# Altium footprint library Sangjian_Pcb.PcbLib: 434 footprints (part 11 of 28)
Each footprint in its own frame and in the unit in brackets; x right, y up, seen from the top. Pads: shape width x height; smd on the part's side, far side on the other; paste and mask are expansions set on the pad; w line width, h text height; cw(c..) or ccw(c..) is an arc to the next point about the centre after c.
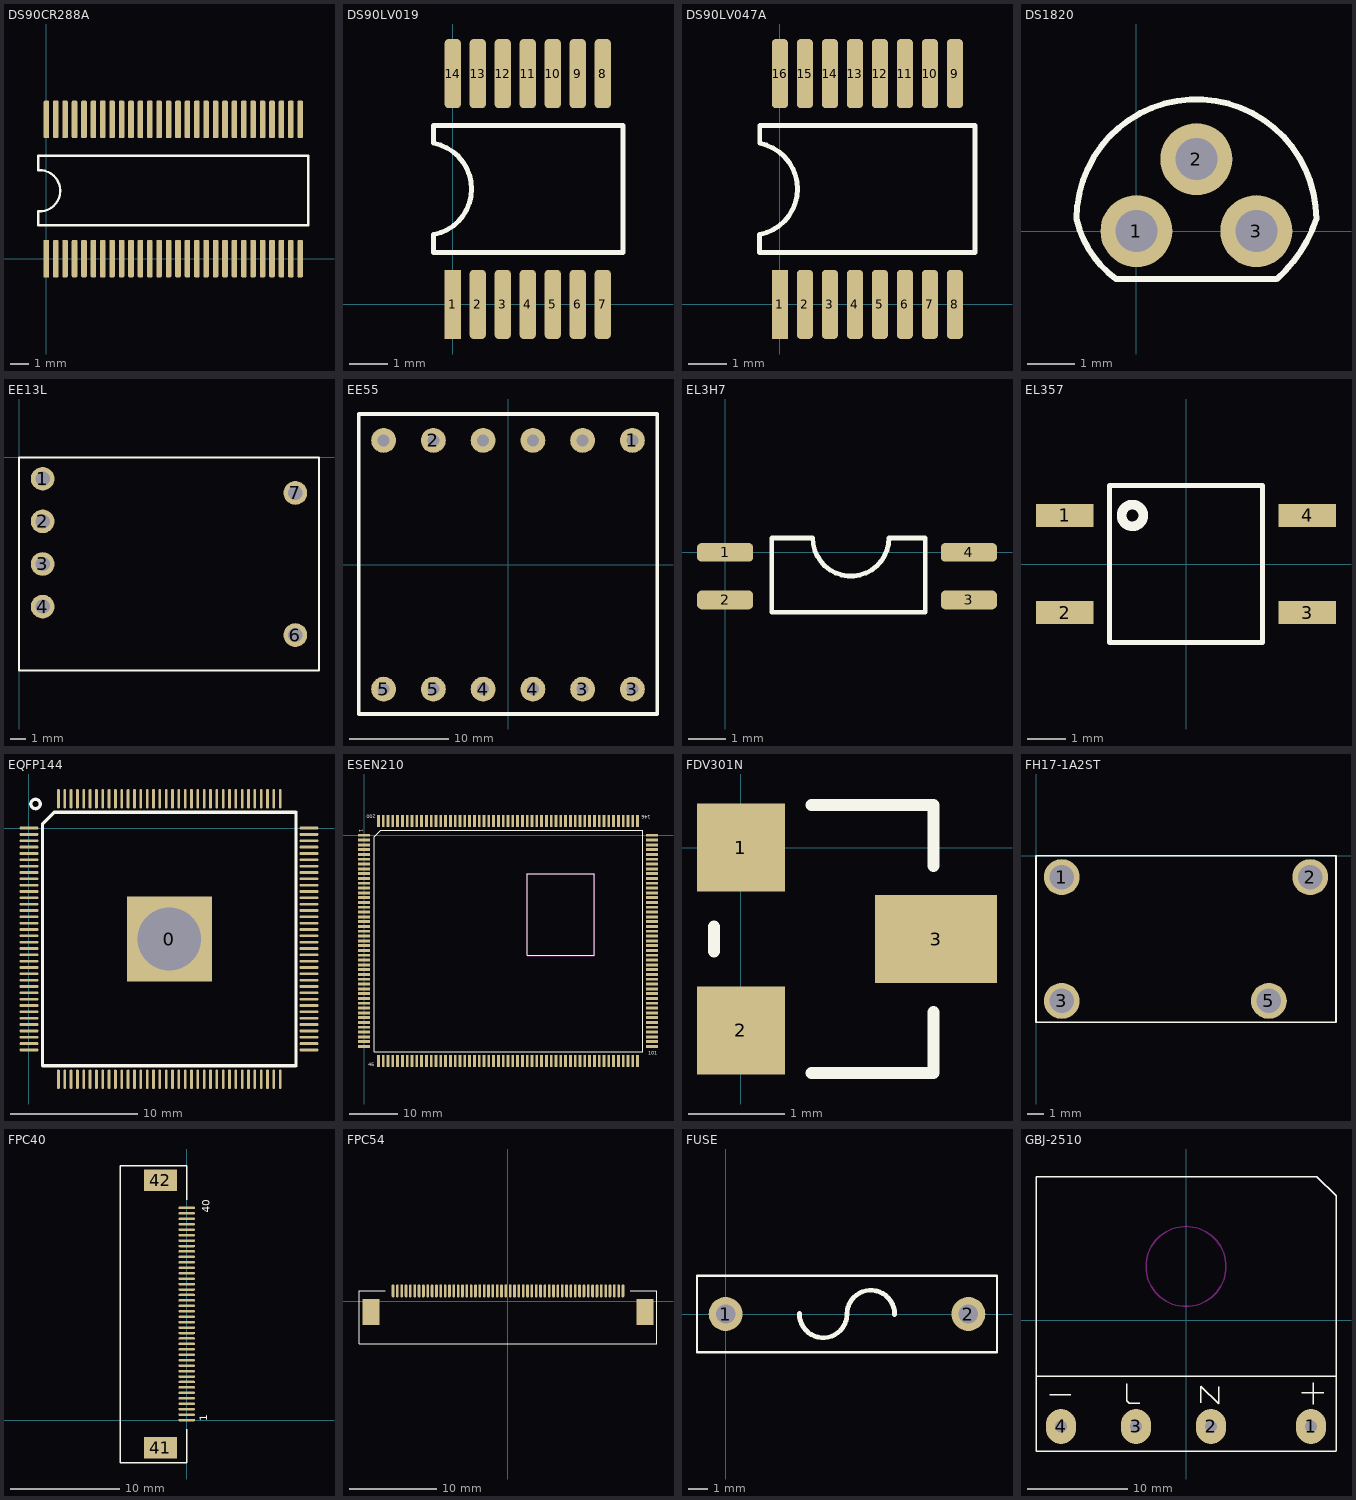
[diagram p10: the footprints below, top view; thin cyan lines are the x and y axes]

## DS90CR288A [mm]
pads (56):
  rect 0.3x2 smd: 1(0,0)
  rrect50% 0.3x2 smd: 2(0.5,0) 3(1,0) 4(1.5,0) 5(2,0) 6(2.5,0) 7(3,0) 8(3.5,0) 9(4,0) 10(4.5,0) 11(5,0) 12(5.5,0) 13(6,0) 14(6.5,0) 15(7,0) 16(7.5,0) 17(8,0) 18(8.5,0) 19(9,0) 20(9.5,0) 21(10,0) 22(10.5,0) 23(11,0) 24(11.5,0) 25(12,0) 26(12.5,0) 27(13,0) 28(13.5,0) 29(13.5,7.4) 30(13,7.4) 31(12.5,7.4) 32(12,7.4) 33(11.5,7.4) 34(11,7.4) 35(10.5,7.4) 36(10,7.4) 37(9.5,7.4) 38(9,7.4) 39(8.5,7.4) 40(8,7.4) 41(7.5,7.4) 42(7,7.4) 43(6.5,7.4) 44(6,7.4) 45(5.5,7.4) 46(5,7.4) 47(4.5,7.4) 48(4,7.4) 49(3.5,7.4) 50(3,7.4) 51(2.5,7.4) 52(2,7.4) 53(1.5,7.4) 54(1,7.4) 55(0.5,7.4) 56(0,7.4)
Top Overlay:
  lines w0.127: -0.425,1.778 13.925,1.778 13.925,5.461 -0.425,5.461 -0.425,4.699 cw(c-0.359,3.605) -0.424,2.511 -0.424,1.779

## DS90LV019 [mm]
pads (14):
  rect 0.42x1.8 smd: 1(0,0)
  rrect50% 0.42x1.8 smd: 2(0.65,0) 3(1.3,0) 4(1.95,0) 5(2.6,0) 6(3.25,0) 7(3.9,0) 8(3.9,6) 9(3.25,6) 10(2.6,6) 11(1.95,6) 12(1.3,6) 13(0.65,6) 14(0,6)
Top Overlay:
  lines w0.127: -0.5,1.816 -0.5,1.349 4.425,1.349 4.425,4.651 -0.5,4.651 -0.5,4.19 ; -0.492,1.816 ccw(c-0.718,3.003) -0.491,4.19

## DS90LV047A [mm]
pads (16):
  rect 0.42x1.8 smd: 1(0,0)
  rrect50% 0.42x1.8 smd: 2(0.65,0) 3(1.3,0) 4(1.95,0) 5(2.6,0) 6(3.25,0) 7(3.9,0) 8(4.55,0) 9(4.55,6) 10(3.9,6) 11(3.25,6) 12(2.6,6) 13(1.95,6) 14(1.3,6) 15(0.65,6) 16(0,6)
Top Overlay:
  lines w0.127: -0.526,1.349 -0.526,1.816 ccw(c-0.752,3.003) -0.525,4.19 -0.525,4.651 5.075,4.651 5.075,1.349 -0.525,1.349

## DS1820 [mil]
pads (3):
  round 60 hole 35: 1(0,0) 2(50,60) 3(100,0)
Top Overlay:
  lines w5: -50,10 cw(c50,10) 150,10 ; -50.02,10.07 ccw(c34.17,29.66) -17,-40 117,-40 ccw(c41.33,45.83) 150.03,10.09

## EE13L [mm]
pads (6):
  round 1.5 hole 0.9: 1(1.5,-1.35) 2(1.5,-4.05) 3(1.5,-6.75) 4(1.5,-9.45) 6(17.5,-11.25) 7(17.5,-2.25)
Top Overlay:
  lines w0.127: 0,-13.5 19,-13.5 19,0 0,0 0,-13.5

## EE55 [mm]
pads (12):
  round 2.5 hole 1.2: 1(12.5,12.5) 2(-7.5,12.5) 3(7.5,-12.5) 3(12.5,-12.5) 4(-2.5,-12.5) 4(2.5,-12.5) 5(-12.5,-12.5) 5(-7.5,-12.5) ""(-12.5,12.5) ""(-2.5,12.5) ""(2.5,12.5) ""(7.5,12.5)
Top Overlay:
  lines w0.4: -15,15 -15,-15 15,-15 ; -15,15.152 15,15.152 15,-14.87

## EL3H7 [mm]
pads (4):
  rrect50% 1.5x0.5 smd: 1(0,0) 2(0,-1.27) 3(6.5,-1.27) 4(6.5,0)
Top Overlay:
  lines w0.127: 1.245,-1.6 1.245,0.381 2.337,0.381 ccw(c3.353,0.381) 4.369,0.381 5.334,0.381 5.334,-1.6 1.245,-1.6

## EL357 [mm]
pads (4):
  rect 1.5x0.6 smd: 1(-3.175,1.27) 2(-3.175,-1.27) 3(3.175,-1.27) 4(3.175,1.27)
Top Overlay:
  circle w0.254: c-1.402,1.27 r0.284
  lines w0.127: -2,-2.05 -2,2.05 2,2.05 2,-2.05 -2,-2.05

## EQFP144 [mil]
pads (145):
  rect 263.78x263.78 hole 196.85: 0(435.94,-344.49)
  oct 60x8.5 smd: 1(0,0) 2(0,-19.68) 3(0,-39.37) 4(0,-59.06) 5(0,-78.74) 6(0,-98.43) 7(0,-118.11) 8(0,-137.8) 9(0,-157.48) 10(0,-177.17) 11(0,-196.85) 12(0,-216.54) 13(0,-236.22) 14(0,-255.91) 15(0,-275.59) 16(0,-295.28) 17(0,-314.96) 18(0,-334.65) 19(0,-354.33) 20(0,-374.02) 21(0,-393.7) 22(0,-413.39) 23(0,-433.07) 24(0,-452.76) 25(0,-472.44) 26(0,-492.13) 27(0,-511.81) 28(0,-531.5) 29(0,-551.18) 30(0,-570.87) 31(0,-590.55) 32(0,-610.24) 33(0,-629.92) 34(0,-649.61) 35(0,-669.29) 36(0,-688.98) 73(870,-688.98) 74(870,-669.29) 75(870,-649.61) 76(870,-629.92) 77(870,-610.24) 78(870,-590.55) 79(870,-570.87) 80(870,-551.18) 81(870,-531.5) 82(870,-511.81) 83(870,-492.13) 84(870,-472.44) 85(870,-452.76) 86(870,-433.07) 87(870,-413.39) 88(870,-393.7) 89(870,-374.02) 90(870,-354.33) 91(870,-334.65) 92(870,-314.96) 93(870,-295.28) 94(870,-275.59) 95(870,-255.91) 96(870,-236.22) 97(870,-216.54) 98(870,-196.85) 99(870,-177.17) 100(870,-157.48) 101(870,-137.8) 102(870,-118.11) 103(870,-98.43) 104(870,-78.74) 105(870,-59.06) 106(870,-39.37) 107(870,-19.68) 108(870,0)
  oct 8.5x60 smd: 37(91.46,-780.43) 38(111.14,-780.43) 39(130.83,-780.43) 40(150.51,-780.43) 41(170.2,-780.43) 42(189.88,-780.43) 43(209.57,-780.43) 44(229.25,-780.43) 45(248.94,-780.43) 46(268.62,-780.43) 47(288.31,-780.43) 48(307.99,-780.43) 49(327.68,-780.43) 50(347.36,-780.43) 51(367.05,-780.43) 52(386.73,-780.43) 53(406.42,-780.43) 54(426.1,-780.43) 55(445.79,-780.43) 56(465.47,-780.43) 57(485.16,-780.43) 58(504.84,-780.43) 59(524.53,-780.43) 60(544.21,-780.43) 61(563.9,-780.43) 62(583.58,-780.43) 63(603.27,-780.43) 64(622.95,-780.43) 65(642.64,-780.43) 66(662.32,-780.43) 67(682.01,-780.43) 68(701.69,-780.43) 69(721.38,-780.43) 70(741.06,-780.43) 71(760.75,-780.43) 72(780.43,-780.43) 109(780.43,91.46) 110(760.75,91.46) 111(741.06,91.46) 112(721.38,91.46) 113(701.69,91.46) 114(682.01,91.46) 115(662.32,91.46) 116(642.64,91.46) 117(622.95,91.46) 118(603.27,91.46) 119(583.58,91.46) 120(563.9,91.46) 121(544.21,91.46) 122(524.53,91.46) 123(504.84,91.46) 124(485.16,91.46) 125(465.47,91.46) 126(445.79,91.46) 127(426.1,91.46) 128(406.42,91.46) 129(386.73,91.46) 130(367.05,91.46) 131(347.36,91.46) 132(327.68,91.46) 133(307.99,91.46) 134(288.31,91.46) 135(268.62,91.46) 136(248.94,91.46) 137(229.25,91.46) 138(209.57,91.46) 139(189.88,91.46) 140(170.2,91.46) 141(150.51,91.46) 142(130.83,91.46) 143(111.14,91.46) 144(91.46,91.46)
Top Overlay:
  circle w10: c20.42,75 r14.58
  lines w10: 42.24,-737.8 42.24,-703.15 42.24,13.39 78.07,49.21 790.28,49.21 829.25,49.21 829.65,48.82 829.65,5.51 829.65,-703.15 829.65,-737.8 829.25,-738.19 790.28,-738.19 81.61,-738.19 42.64,-738.19 42.24,-737.8

## ESEN210 [mm]
pads (200):
  rect 2.5x0.6 smd: 1(0,0) 2(0,-1) 3(0,-2) 4(0,-3) 5(0,-4) 6(0,-5) 7(0,-6) 8(0,-7) 9(0,-8) 10(0,-9) 11(0,-10) 12(0,-11) 13(0,-12) 14(0,-13) 15(0,-14) 16(0,-15) 17(0,-16) 18(0,-17) 19(0,-18) 20(0,-19) 21(0,-20) 22(0,-21) 23(0,-22) 24(0,-23) 25(0,-24) 26(0,-25) 27(0,-26) 28(0,-27) 29(0,-28) 30(0,-29) 31(0,-30) 32(0,-31) 33(0,-32) 34(0,-33) 35(0,-34) 36(0,-35) 37(0,-36) 38(0,-37) 39(0,-38) 40(0,-39) 41(0,-40) 42(0,-41) 43(0,-42) 44(0,-43) 45(0,-44) 101(60,-44) 102(60,-43) 103(60,-42) 104(60,-41) 105(60,-40) 106(60,-39) 107(60,-38) 108(60,-37) 109(60,-36) 110(60,-35) 111(60,-34) 112(60,-33) 113(60,-32) 114(60,-31) 115(60,-30) 116(60,-29) 117(60,-28) 118(60,-27) 119(60,-26) 120(60,-25) 121(60,-24) 122(60,-23) 123(60,-22) 124(60,-21) 125(60,-20) 126(60,-19) 127(60,-18) 128(60,-17) 129(60,-16) 130(60,-15) 131(60,-14) 132(60,-13) 133(60,-12) 134(60,-11) 135(60,-10) 136(60,-9) 137(60,-8) 138(60,-7) 139(60,-6) 140(60,-5) 141(60,-4) 142(60,-3) 143(60,-2) 144(60,-1) 145(60,0)
  rect 0.6x2.5 smd: 46(3,-47) 47(4,-47) 48(5,-47) 49(6,-47) 50(7,-47) 51(8,-47) 52(9,-47) 53(10,-47) 54(11,-47) 55(12,-47) 56(13,-47) 57(14,-47) 58(15,-47) 59(16,-47) 60(17,-47) 61(18,-47) 62(19,-47) 63(20,-47) 64(21,-47) 65(22,-47) 66(23,-47) 67(24,-47) 68(25,-47) 69(26,-47) 70(27,-47) 71(28,-47) 72(29,-47) 73(30,-47) 74(31,-47) 75(32,-47) 76(33,-47) 77(34,-47) 78(35,-47) 79(36,-47) 80(37,-47) 81(38,-47) 82(39,-47) 83(40,-47) 84(41,-47) 85(42,-47) 86(43,-47) 87(44,-47) 88(45,-47) 89(46,-47) 90(47,-47) 91(48,-47) 92(49,-47) 93(50,-47) 94(51,-47) 95(52,-47) 96(53,-47) 97(54,-47) 98(55,-47) 99(56,-47) 100(57,-47) 146(57,3) 147(56,3) 148(55,3) 149(54,3) 150(53,3) 151(52,3) 152(51,3) 153(50,3) 154(49,3) 155(48,3) 156(47,3) 157(46,3) 158(45,3) 159(44,3) 160(43,3) 161(42,3) 162(41,3) 163(40,3) 164(39,3) 165(38,3) 166(37,3) 167(36,3) 168(35,3) 169(34,3) 170(33,3) 171(32,3) 172(31,3) 173(30,3) 174(29,3) 175(28,3) 176(27,3) 177(26,3) 178(25,3) 179(24,3) 180(23,3) 181(22,3) 182(21,3) 183(20,3) 184(19,3) 185(18,3) 186(17,3) 187(16,3) 188(15,3) 189(14,3) 190(13,3) 191(12,3) 192(11,3) 193(10,3) 194(9,3) 195(8,3) 196(7,3) 197(6,3) 198(5,3) 199(4,3) 200(3,3)
Top Overlay:
  lines w0.127: 2.088,-45.133 58.095,-45.133 58.095,1.095 3.485,1.095 2.088,-0.302 2.088,-45.133 ; 34,-25 34,-8 48,-8 48,-25 34,-25
  text "1" at -1.016,1.27 h0.76
  text "46" at 0.889,-48.133 h0.76
  text "101" at 59.182,-45.72 h0.76
  text "146" at 59.69,4.191 h0.76
  text "200" at 2.469,4.27 h0.76
Keep-Out Layer:
  lines w0.254: 33.965,-25.067 47.935,-25.067 48.062,-24.94 48.062,-8.049 33.965,-8.049 33.965,-25.067

## FDV301N [mil]
pads (3):
  rect 36x36 smd: 1(0,0) 2(0,-75)
  rect 50x36 smd: 3(80,-37.5)
Top Overlay:
  lines w5: -11,-42.5 -11,-32.5 ; 29,-92.5 79,-92.5 79,-67.5 ; 29,17.5 79,17.5 79,-7.5

## FH17-1A2ST [mm]
pads (4):
  round 2.2 hole 1.5: 1(1.58,-1.3) 2(16.82,-1.3) 3(1.58,-8.9) 5(14.28,-8.9)
Top Overlay:
  lines w0.1: 0,-10.2 0,0 18.4,0 18.4,-10.2 0,-10.2

## FPC40 [mil]
pads (42):
  oval 60x9 smd: 1(0,0) 2(0,19.69) 3(0,39.37) 4(0,59.06) 5(0,78.74) 6(0,98.43) 7(0,118.11) 8(0,137.8) 9(0,157.48) 10(0,177.17) 11(0,196.85) 12(0,216.54) 13(0,236.22) 14(0,255.91) 15(0,275.59) 16(0,295.28) 17(0,314.96) 18(0,334.65) 19(0,354.33) 20(0,374.02) 21(0,393.7) 22(0,413.39) 23(0,433.07) 24(0,452.76) 25(0,472.44) 26(0,492.13) 27(0,511.81) 28(0,531.5) 29(0,551.18) 30(0,570.87) 31(0,590.55) 32(0,610.24) 33(0,629.92) 34(0,649.61) 35(0,669.29) 36(0,688.98) 37(0,708.66) 38(0,728.35) 39(0,748.03) 40(0,767.72)
  rect 118.11x78.74 smd: 41(-95,-100) 42(-95,867.72)
Top Overlay:
  lines w5: 0,-33.39 0,-154.37 -240,-154.37 -240,920.63 0,920.63 0,796.61
  text "1" at 74.02,-4.37 h27.56
  text "40" at 84.02,750.63 h27.56

## FPC54 [mil]
pads (56):
  oval 12.2x60 smd: 1(521.65,47.5) 2(501.96,47.5) 3(482.28,47.5) 4(462.59,47.5) 5(442.91,47.5) 6(423.22,47.5) 7(403.54,47.5) 8(383.85,47.5) 9(364.17,47.5) 10(344.48,47.5) 11(324.8,47.5) 12(305.11,47.5) 13(285.43,47.5) 14(265.74,47.5) 15(246.06,47.5) 16(226.37,47.5) 17(206.69,47.5) 18(187,47.5) 19(167.32,47.5) 20(147.63,47.5) 21(127.95,47.5) 22(108.26,47.5) 23(88.58,47.5) 24(68.89,47.5) 25(49.21,47.5) 26(29.52,47.5) 27(9.84,47.5) 28(-9.85,47.5) 29(-29.53,47.5) 30(-49.22,47.5) 31(-68.9,47.5) 32(-88.59,47.5) 33(-108.27,47.5) 34(-127.96,47.5) 35(-147.64,47.5) 36(-167.33,47.5) 37(-187.01,47.5) 38(-206.7,47.5) 39(-226.38,47.5) 40(-246.07,47.5) 41(-265.75,47.5) 42(-285.43,47.5) 43(-305.12,47.5) 44(-324.8,47.5) 45(-344.49,47.5) 46(-364.17,47.5) 47(-383.86,47.5) 48(-403.54,47.5) 49(-423.23,47.5) 50(-442.91,47.5) 51(-462.6,47.5) 52(-482.28,47.5) 53(-501.97,47.5) 54(-521.65,47.5)
  rect 78.74x118.11 smd: ""(-621.65,-47.5) ""(621.65,-47.5)
Top Overlay:
  lines w5: -556.1,47.48 -675.2,47.48 -675.2,-192.5 676.02,-192.5 676.02,47.5 555.04,47.5

## FUSE [mil]
pads (2):
  round 70 hole 40: 1(0,0) 2(500,0)
Top Overlay:
  lines w5: -59.05,-78.74 -59.05,78.74 559.05,78.74 559.05,-78.74 -59.05,-78.74
  lines w10: 151.99,1 ccw(c200.99,0) 250,0 cw(c299.01,0) 348.01,-1

## GBJ-2510 [mm]
pads (4):
  oval 3x3.5 hole 1.2: 1(12.5,-10.617) 2(2.5,-10.617) 3(-5,-10.617) 4(-12.5,-10.617)
Top Overlay:
  lines w0.127: -15,-5.617 14.986,-5.617 ; -15,14.376 -15,-13.117 14.986,-13.117 ; -15,14.383 13.075,14.383 15,12.457 15,12.395 15,-13.117 ; -13.614,-7.442 -11.532,-7.442 ; -5.918,-6.325 -5.918,-8.052 -5.69,-8.28 -4.623,-8.28 ; 1.499,-8.255 1.499,-6.579 3.251,-8.331 3.251,-6.629 ; 11.557,-7.264 13.792,-7.264 ; 12.725,-8.407 12.725,-6.248
Keep-Out Layer:
  circle w0.127: c0,5.383 r4